# EAGLE library part DP83848CVV (library DP83848CVV)
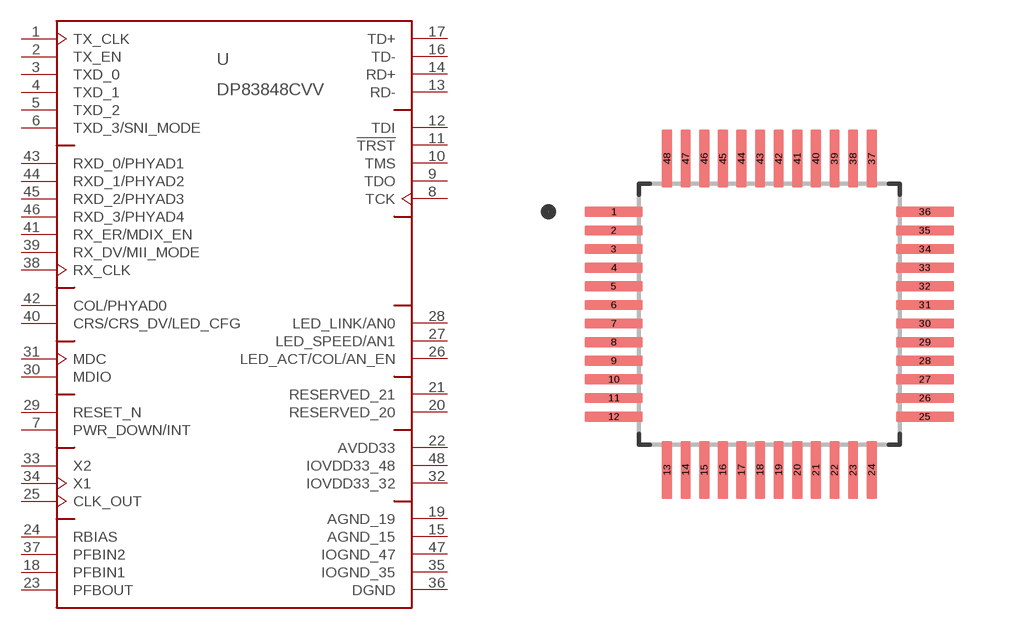
[diagram p0: symbol with the pads of QFP50P900X900X160-49N; footprint QFP50P900X900X160-49N]

Designator prefix U

## DP83848CVV (DESCRIPTION: SinglePort 10/100Mb/sEthernet Physical Layer Transceiver; DIGI-KEY_PART_NUMBER: DP83848CVV/NOPB-ND; JLCPCB_PART_NUMBER: C16688; MF: Texas Instruments; MP: DP83848CVV/NOPB; PACKAGE: LQFP-48 Texas Instruments)  [QFP50P900X900X160-49N]
1  TX_CLK  out
2  TX_EN  in
3  TXD_0  in
4  TXD_1  in
5  TXD_2  in
6  TXD_3/SNI_MODE  in
7  PWR_DOWN/INT  in
8  TCK  in
9  TDO  out
10  TMS  in
11  !TRST  in
12  TDI  in
13  RD-
14  RD+
15  AGND_15  pwr
16  TD-
17  TD+
18  PFBIN1  in
19  AGND_19  pwr
20  RESERVED_20
21  RESERVED_21
22  AVDD33  pwr
23  PFBOUT  out
24  RBIAS  in
25  CLK_OUT  out
26  LED_ACT/COL/AN_EN  out
27  LED_SPEED/AN1  out
28  LED_LINK/AN0  out
29  RESET_N  in
30  MDIO
31  MDC  in
32  IOVDD33_32  pwr
33  X2  out
34  X1  in
35  IOGND_35  pwr
36  DGND  pwr
37  PFBIN2  in
38  RX_CLK  out
39  RX_DV/MII_MODE  out
40  CRS/CRS_DV/LED_CFG  out
41  RX_ER/MDIX_EN  out
42  COL/PHYAD0  out
43  RXD_0/PHYAD1  out
44  RXD_1/PHYAD2  out
45  RXD_2/PHYAD3  out
46  RXD_3/PHYAD4  out
47  IOGND_47  pwr
48  IOVDD33_48  pwr

## Footprint QFP50P900X900X160-49N (pad centres in mm)
smd 1.56 x 0.28: 1 -4.18,2.75; 2 -4.18,2.25; 3 -4.18,1.75; 4 -4.18,1.25; 5 -4.18,0.75; 6 -4.18,0.25; 7 -4.18,-0.25; 8 -4.18,-0.75; 9 -4.18,-1.25; 10 -4.18,-1.75; 11 -4.18,-2.25; 12 -4.18,-2.75; 25 4.18,-2.75; 26 4.18,-2.25; 27 4.18,-1.75; 28 4.18,-1.25; 29 4.18,-0.75; 30 4.18,-0.25; 31 4.18,0.25; 32 4.18,0.75; 33 4.18,1.25; 34 4.18,1.75; 35 4.18,2.25; 36 4.18,2.75
smd 0.28 x 1.56: 13 -2.75,-4.18; 14 -2.25,-4.18; 15 -1.75,-4.18; 16 -1.25,-4.18; 17 -0.75,-4.18; 18 -0.25,-4.18; 19 0.25,-4.18; 20 0.75,-4.18; 21 1.25,-4.18; 22 1.75,-4.18; 23 2.25,-4.18; 24 2.75,-4.18; 37 2.75,4.18; 38 2.25,4.18; 39 1.75,4.18; 40 1.25,4.18; 41 0.75,4.18; 42 0.25,4.18; 43 -0.25,4.18; 44 -0.75,4.18; 45 -1.25,4.18; 46 -1.75,4.18; 47 -2.25,4.18; 48 -2.75,4.18